# Altium schematic symbol library Right angle DB-9 RCPT.SchLib: 2 symbols
Pins are listed as number, name and electrical type; pins without a type are passive.

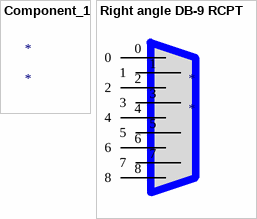
[diagram p0: symbols Component_1 to Right angle DB-9 RCPT]

## Component_1
designator *

## Right angle DB-9 RCPT
designator *
ComponentLink1Description: Digi-Key; ComponentLink1URL: https://www.digikey.com/product-detail/en/assmann-wsw-components/A-DF-09-A-KG-T2S/AE10921-ND/1241800
footprint PCBComponent_1
pins: 0, 1, 2, 3, 4, 5, 6, 7, 8